# EAGLE library part SDMMC (library adafruit)
SD MMC Card holder 4UCON part #06132 - easy to solder
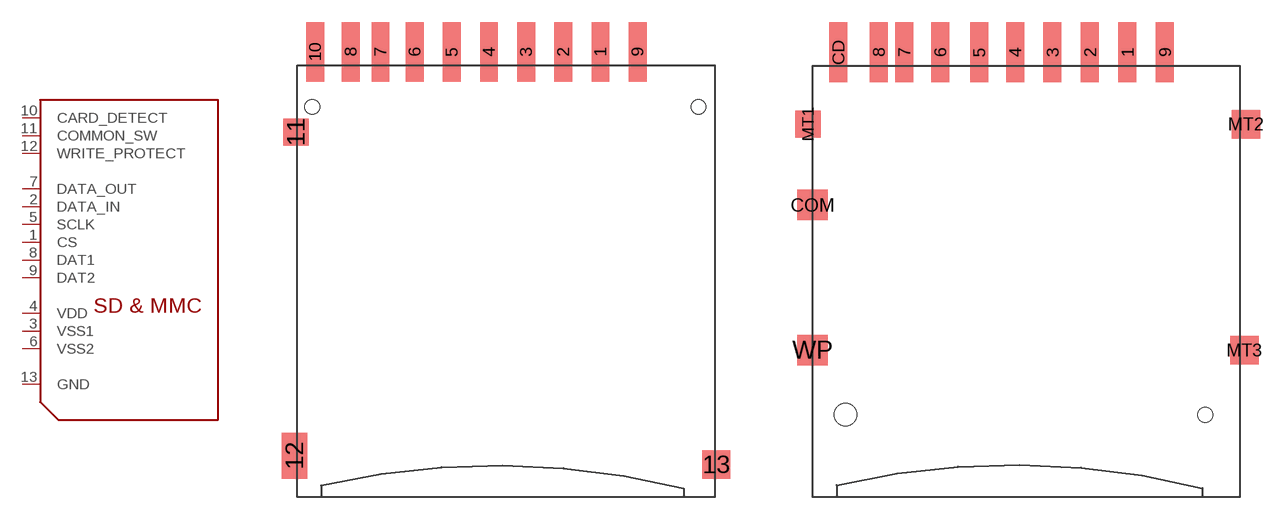
[diagram p30: symbol with the pads of SCDA; footprints SCDA, SDCARD]

Designator prefix -

## SDMMCSCDA  [SCDA]
1  CS  in
2  DATA_IN  in
3  VSS1  sup
4  VDD  sup
5  SCLK  in
6  VSS2  sup
7  DATA_OUT  out
8  DAT1
9  DAT2
10  CARD_DETECT  pas
11  COMMON_SW  pas
12  WRITE_PROTECT  pas
13  GND  sup

## SDMMC18650  [SDCARD]
1  CS  in
2  DATA_IN  in
3  VSS1  sup
4  VDD  sup
5  SCLK  in
6  VSS2  sup
7  DATA_OUT  out
8  DAT1
9  DAT2
CD  CARD_DETECT  pas
COM  COMMON_SW  pas
MT1  GND  sup
WP  WRITE_PROTECT  pas

## SDMMC06132  [06132]
1  CS  in
2  DATA_IN  in
3  VSS1  sup
4  VDD  sup
5  SCLK  in
6  VSS2  sup
7  DATA_OUT  out
8  DAT1
9  DAT2
CD  CARD_DETECT  pas
GP  GND  sup
GP3  COMMON_SW  pas
WP  WRITE_PROTECT  pas

## Footprint SCDA (pad centres in mm)
smd 1.2 x 4: 1 6.4,3.7; 2 3.9,3.7; 3 1.4,3.7; 4 -1.1,3.7; 5 -3.6,3.7; 6 -6.1,3.7; 7 -8.4,3.7; 8 -10.4,3.7; 9 8.9,3.7; 10 -12.8,3.7
smd 1.7 x 1.8: 11 -14.1,-1.7
smd 1.7 x 3.1: 12 -14.2,-23.5
smd 1.9 x 1.9: 13 14.2,-24.1
hole 1 at -13,0
hole 1 at 13,0

## Footprint SDCARD (pad centres in mm)
smd 1.2 x 4: 1 6.8,0.89; 2 4.3,0.89; 3 1.8,0.89; 4 -0.7,0.89; 5 -3.1,0.89; 6 -5.7,0.89; 7 -8.1,0.89; 8 -9.8,0.89; 9 9.3,0.89; CD -12.5,0.89
smd 2.032 x 2.032: COM -14.2,-9.3; WP -14.2,-19
smd 1.7 x 1.8: MT1 -14.5,-3.91
smd 1.9 x 1.9: MT2 14.7,-3.91; MT3 14.6,-19.01
hole 1.5 at -12,-23.31
hole 1 at 12,-23.31

## Footprint 06132 (pad centres in mm)
smd 1.2 x 4: 1 6.9,0.9; 2 4.4,0.9; 3 1.9,0.9; 4 -0.6,0.9; 5 -3.1,0.9; 6 -5.6,0.9; 7 -8.1,0.9; 9 9.4,0.9
smd 0.7 x 4: 8 -9.7,0.9; CD -11,0.9; WP -12.2,0.9
smd 2 x 2.8: GP -13.8,-21.8; GP2 14.1,-21.8; GP3 11.7,-0.9; GP4 -13.9,-1
hole 1.1 at -11.6,-2.1
hole 1.6 at 9.5,-2.1